# EAGLE library part BMX160 (library BMX160)
IMU ACCEL/GYRO/MAG
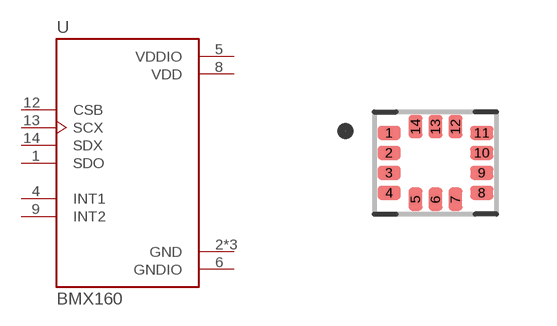
[diagram p0: symbol with the pads of PQFN50P250X300X100-14N; footprint PQFN50P250X300X100-14N]

Designator prefix U

## BMX160 (Availability: Unavailable; Description: Accelerometer, Gyroscope, Magnetometer, 9 Axis Sensor I²C, SPI Output; MF: Bosch Sensortec; MP: BMX160; Package: VFLGA-14 Bosch Sensortec; Price: None)  [PQFN50P250X300X100-14N]
1  SDO
2  GND  pwr
3  GND  pwr
4  INT1
5  VDDIO  pwr
6  GNDIO  pwr
7  GND  pwr
8  VDD  pwr
9  INT2
12  CSB  in
13  SCX  in
14  SDX

## Footprint PQFN50P250X300X100-14N (pad centres in mm)
smd 0.58 x 0.35: 1 -1.16,0.75; 2 -1.16,0.25; 3 -1.16,-0.25; 4 -1.16,-0.75; 8 1.16,-0.75; 9 1.16,-0.25; 10 1.16,0.25; 11 1.16,0.75
smd 0.35 x 0.58: 5 -0.5,-0.91; 6 0,-0.91; 7 0.5,-0.91; 12 0.5,0.91; 13 0,0.91; 14 -0.5,0.91